# Altium schematic symbol library PowerPCB.SchLib: 56 symbols (part 1 of 2)
Pins are listed as number, name and electrical type; pins without a type are passive.

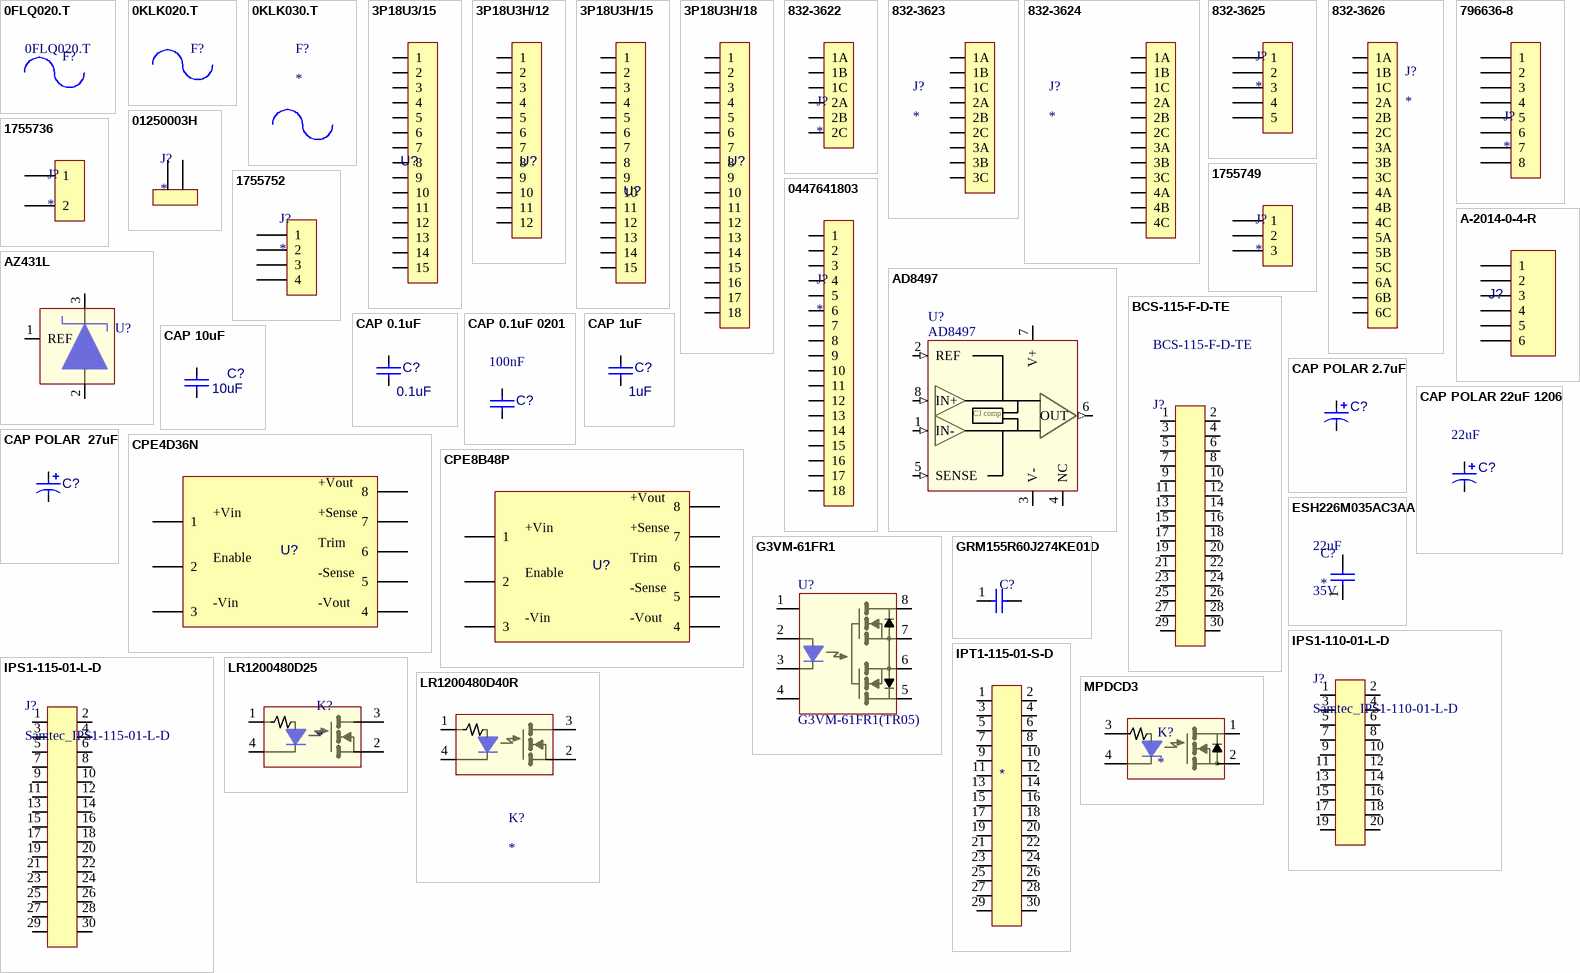
[diagram p0: symbols 0FLQ020.T to MPDCD3]

## 0FLQ020.T
designator F?  Manufacturer Part Number 1: 0FLQ020.T  (hidden comment: *)  (mechanical)
FUSE CARTRIDGE 20A 500VAC/300VDC; Manufacturer 1: Littelfuse; Voltage Rating (DC): 300V; Working Voltage: 500V; Resistance: 4.063mR; Type: Electrical; Approvals: UL,CSA; ComponentLink1URL: https://datasheet.ciiva.com/317/littelfuse-fuse-klk-317844.pdf?src-supplier=Digi-Key; ComponentLink1Description: https://datasheet.ciiva.com/317/littelfuse-fuse-klk-317844.pdf?src-supplier=Digi-Key; ComponentLink2URL: https://datasheet.ciiva.com/14102/epklk-dat-e-14102718.pdf?src-supplier=Distrelec; ComponentLink2Description: https://datasheet.ciiva.com/14102/epklk-dat-e-14102718.pdf?src-supplier=Distrelec; ComponentLink3URL: https://datasheet.ciiva.com/1548/1842486-1548255.pdf?src-supplier=Element14; ComponentLink3Description: https://datasheet.ciiva.com/1548/1842486-1548255.pdf?src-supplier=Element14; Mount: Holder,Surface Mount; Number of Pins: 2; Min Operating Temperature: -55°C; Max Operating Temperature: 125°C; Termination: Clip; Fuse Current: 20A; Voltage Rating (AC): 500V; Packaging: Bulk; Current Rating: 20A; Package Quantity: 10; Diameter: 10.31mm; Length: 38.1mm; Radiation Hardening: No; Lead Free: Lead Free; REACH SVHC: No SVHC; ComponentLink4URL: https://datasheet.ciiva.com/4483/flq-39278-4483504.pdf?src-supplier=Mouser; ComponentLink4Description: https://datasheet.ciiva.com/4483/flq-39278-4483504.pdf?src-supplier=Mouser; ComponentLink5URL: https://datasheet.ciiva.com/25619/0900766b8117e426-25619934.pdf?src-supplier=RSComponents; ComponentLink5Description: https://datasheet.ciiva.com/25619/0900766b8117e426-25619934.pdf?src-supplier=RSComponents; ComponentLink6URL: https://datasheet.ciiva.com/317/flq-317475.pdf?src-supplier=Digi-Key; ComponentLink6Description: https://datasheet.ciiva.com/317/flq-317475.pdf?src-supplier=Digi-Key; ComponentLink7URL: https://datasheet.ciiva.com/14180/flq-eng-datasheet-14180422.pdf?src-supplier=Distrelec; ComponentLink7Description: https://datasheet.ciiva.com/14180/flq-eng-datasheet-14180422.pdf?src-supplier=Distrelec; ComponentLink8URL: https://datasheet.ciiva.com/16300/flq-16300747.pdf?src-supplier=Future+Electronics; ComponentLink8Description: https://datasheet.ciiva.com/16300/flq-16300747.pdf?src-supplier=Future+Electronics; ComponentLink9URL: https://datasheet.ciiva.com/1548/flq-1548495.pdf?src-supplier=Element14; ComponentLink9Description: https://datasheet.ciiva.com/1548/flq-1548495.pdf?src-supplier=Element14; Supplier 1: Digi-Key; Supplier Part Number 1: F1055-ND; RoHS: Yes; Category: Fuses; Stock 1: 13; Pricing 1: 1=21.68000, 5=20.01600, 10=18.34800, 50=15.84600, 100=13.34400, 250=12.51000, 500=11.25900, 1000=10.84200, 5000=10.42500 (USD)

## 0KLK020.T
designator F?  (value not drawn)
FUSE CARTRIDGE 20A 600VAC/500VDC; Manufacturer: Littelfuse; Manufacturer Part Number: 0KLK020.T; Body Material: Ceramic; Voltage Rating: 600V; Voltage Rating (DC): 500V; Type: Electrical; Resistance: 4.21mR; Approvals: UL,CSA,CE,QPL; Supplier 1: Mouser; RoHS: Yes; Category: Fuses; Stock 1: 180; Pricing 1: 1=14.23000, 5=13.95000, 10=12.79000, 20=12.79000, 50=12.40000, 100=10.46000 (USD); Mount: Holder,Clip; Min Operating Temperature: -55°C; Max Operating Temperature: 125°C; Package Quantity: 10; Packaging: Bulk; Termination: Clip; Current Rating: 20A; Voltage Rating (AC): 600V; Fuse Current: 20A; Working Voltage: 600V; Diameter: 0.406inch; Length: 38.1mm; Lead Free: Lead Free; REACH SVHC: Unknown; ComponentLink1URL: https://datasheet.ciiva.com/317/littelfuse-fuse-klk-317844.pdf?src-supplier=Digi-Key; ComponentLink1Description: https://datasheet.ciiva.com/317/littelfuse-fuse-klk-317844.pdf?src-supplier=Digi-Key; ComponentLink2URL: https://datasheet.ciiva.com/14102/epklk-dat-e-14102718.pdf?src-supplier=Distrelec; ComponentLink2Description: https://datasheet.ciiva.com/14102/epklk-dat-e-14102718.pdf?src-supplier=Distrelec; ComponentLink3URL: https://datasheet.ciiva.com/1548/1842486-1548255.pdf?src-supplier=Element14; ComponentLink3Description: https://datasheet.ciiva.com/1548/1842486-1548255.pdf?src-supplier=Element14

## 0KLK030.T
designator F?  (mechanical)
FUSE CARTRIDGE 30A 600VAC/500VDC; Manufacturer: Littelfuse; Manufacturer Part Number: 0KLK030.T; Voltage Rating (DC): 500V; Voltage Rating (AC): 600V; Type: Electrical; Resistance: 2.816mR; Approvals: UL,CSA,CE,QPL; Supplier 1: Arrow; RoHS: Yes; Category: Fuses; Stock 1: 400; Pricing 1: 1=7.53700, 1=8.44690, 5=8.18000, 10=7.88100, 20=7.69900, 50=7.51500, 100=7.03100, 200=6.76700, 500=6.51300, 1000=6.25800 (USD); Mount: Holder,Clip; Number of Pins: 2; Min Operating Temperature: -55°C; Max Operating Temperature: 125°C; Current Rating: 30A; Package Quantity: 10; Voltage Rating: 600V; Packaging: Bulk; Termination: Clip; Fuse Current: 30A; Working Voltage: 600V; Diameter: 10.31mm; Length: 38.1mm; Radiation Hardening: No; Lead Free: Lead Free; REACH SVHC: Unknown; ComponentLink1URL: https://datasheet.ciiva.com/14102/epklk-dat-e-14102720.pdf?src-supplier=Distrelec; ComponentLink1Description: https://datasheet.ciiva.com/14102/epklk-dat-e-14102720.pdf?src-supplier=Distrelec; ComponentLink2URL: https://datasheet.ciiva.com/1548/1842486-1548256.pdf?src-supplier=Element14; ComponentLink2Description: https://datasheet.ciiva.com/1548/1842486-1548256.pdf?src-supplier=Element14; ComponentLink3URL: https://datasheet.ciiva.com/317/littelfuse-fuse-klk-317843.pdf?src-supplier=Digi-Key; ComponentLink3Description: https://datasheet.ciiva.com/317/littelfuse-fuse-klk-317843.pdf?src-supplier=Digi-Key; ComponentLink4URL: https://datasheet.ciiva.com/26845/getdatasheetpartid-729153-26845638.pdf?src-supplier=Verical; ComponentLink4Description: https://datasheet.ciiva.com/26845/getdatasheetpartid-729153-26845638.pdf?src-supplier=Verical; Supplier Part Number 1: 0KLK030.T

## 3P18U3/15
designator U?  (value not drawn)
Busbar 3Phase 80A 480VAC 18SQmm 15Pins 5x3Pole UL508 for (V-EA MA Series)MMCs; Manufacturer: Altech; Manufacturer Part Number: 3P18U3/15; Voltage Rating (AC): 480V; Supplier 1: Digi-Key; RoHS: Yes; Category: Uncategorized; Stock 1: 13; Pricing 1: 1=29.93000, 10=27.02100, 25=25.88800, 50=24.27000, 100=23.46100, 250=22.16660, 500=21.51940, 1000=21.03400 (USD); Number of Pins: 15; Insulation Material: Polyamide; Current Rating: 80A; Length: 10.29inch; ComponentLink1URL: https://www.alliedelec.com/m/d/16ce2094eb8c55c4d566d4e8baeebf64.pdf?src-supplier=Allied+Electronics; ComponentLink1Description: https://www.alliedelec.com/m/d/16ce2094eb8c55c4d566d4e8baeebf64.pdf?src-supplier=Allied+Electronics; Supplier Part Number 1: 1920-1430-ND
footprint 3P18U3-15 (BUSBAR3 PHASE+1/2P18SQMM PIN TYP)
pins: 1, 2, 3, 4, 5, 6, 7, 8, 9, 10, 11, 12, 13, 14, 15

## 3P18U3H/12
designator U?  (value not drawn)
Busbar, 3 Phase+1/2pole, 18sqmm, PIN Type, 12lugs, UL/cUL listed; Manufacturer: Altech; Manufacturer Part Number: 3P18U3H/12; Supplier 1: Allied Electronics; RoHS: No; Pricing 1: 1=30.63000, 10=29.71000, 50=29.10000, 100=27.57000, 200=26.04000 (USD); Supplier Part Number 1: 71146457
pins: 1, 2, 3, 4, 5, 6, 7, 8, 9, 10, 11, 12

## 3P18U3H/15
designator U?  (value not drawn)
Busbar, 3 Phase+1/2pole, 18sqmm, PIN Type, 15Lugs, UL/cUL listed; Manufacturer: Altech; Manufacturer Part Number: 3P18U3H/15; Supplier 1: Allied Electronics; RoHS: No; Pricing 1: 1=34.57000, 10=33.53000, 50=32.84000, 100=31.11000, 200=29.38000 (USD); Supplier Part Number 1: 71146458
footprint 3P18U3H-15 (BUSBAR3 PHASE+1/2P18SQMM PIN TYP)
pins: 1, 2, 3, 4, 5, 6, 7, 8, 9, 10, 11, 12, 13, 14, 15

## 3P18U3H/18
designator U?  (value not drawn)
Busbar, 3 Phase+1/2pole, 18sqmm, PIN Type, 18Lugs, UL/cUL listed; Manufacturer: Altech; Manufacturer Part Number: 3P18U3H/18; Supplier 1: Allied Electronics; RoHS: No; Pricing 1: 1=38.51000, 10=37.35000, 50=36.58000, 100=34.66000, 200=32.73000 (USD)
footprint 3P18U3H-15 (BUSBAR3 PHASE+1/2P18SQMM PIN TYP)
pins: 1, 2, 3, 4, 5, 6, 7, 8, 9, 10, 11, 12, 13, 14, 15, 16, 17, 18

## 832-3622
designator J?
832 Series MCS MAXI 16 2 Pole Cage Clamp with Lever Through Hole Male Connector; Manufacturer: WAGO; Manufacturer Part Number: 832-3622; Supplier 1: Newark; Stock 1: 100; Pricing 1: 1=2.24000, 25=2.24000, 100=2.24000, 250=2.24000, 500=2.24000 (USD); ComponentLink1URL: http://datasheet.octopart.com/832-3622-WAGO-datasheet-121832905.pdf?src-supplier=Future+Electronics; ComponentLink1Description: http://datasheet.octopart.com/832-3622-WAGO-datasheet-121832905.pdf?src-supplier=Future+Electronics; ComponentLink2URL: http://datasheet.octopart.com/832-3622-WAGO-datasheet-140899062.pdf?src-supplier=Future+Electronics; ComponentLink2Description: http://datasheet.octopart.com/832-3622-WAGO-datasheet-140899062.pdf?src-supplier=Future+Electronics; Supplier Part Number 1: 85AC3341
footprint W-832-3622_6
pins: 1A, 1B, 1C, 2A, 2B, 2C

## 832-3623
designator J?
832 Series MCS MAXI 16 3 Pole Cage Clamp with Lever Through Hole Male Connector; Manufacturer: WAGO; Manufacturer Part Number: 832-3623; Supplier 1: Newark; Stock 1: 100; Pricing 1: 1=3.36000, 25=3.36000, 100=3.36000, 250=3.36000, 500=3.36000 (USD); ComponentLink1URL: http://datasheet.octopart.com/832-3623-WAGO-datasheet-121832906.pdf?src-supplier=Future+Electronics; ComponentLink1Description: http://datasheet.octopart.com/832-3623-WAGO-datasheet-121832906.pdf?src-supplier=Future+Electronics; ComponentLink2URL: http://datasheet.octopart.com/832-3623-WAGO-datasheet-140899063.pdf?src-supplier=Future+Electronics; ComponentLink2Description: http://datasheet.octopart.com/832-3623-WAGO-datasheet-140899063.pdf?src-supplier=Future+Electronics; Supplier Part Number 1: 85AC3342
footprint W-832-3623_9
pins: 1A, 1B, 1C, 2A, 2B, 2C, 3A, 3B, 3C

## 832-3624
designator J?
Terminal Block, Header, 10.16 mm, 4 Positions, 76 A, 1 kV, Through Hole Right Angle; Manufacturer: WAGO; Manufacturer Part Number: 832-3624; Supplier 1: Newark; RoHS: No; Stock 1: 40; Pricing 1: 1=4.46000, 25=4.46000, 100=4.46000, 250=4.46000, 500=4.46000 (USD); Supplier Part Number 1: 85AC3343
footprint W-832-3624_12
pins: 1A, 1B, 1C, 2A, 2B, 2C, 3A, 3B, 3C, 4A, 4B, 4C

## 832-3625
designator J?
Terminal Block, Header, 10.16 mm, 5 Positions, 76 A, 1 kV, Through Hole Right Angle; Manufacturer: WAGO; Manufacturer Part Number: 832-3625; Supplier 1: Newark; RoHS: No; Stock 1: 14; Pricing 1: 1=7.92000, 25=7.92000, 100=7.92000, 250=7.31000, 500=7.31000 (USD); Supplier Part Number 1: 85AC3344
pins: 1, 2, 3, 4, 5

## 832-3626
designator J?
Wago Serie 832 832-3626 - 832-3626; Supplier 1: Newark; Manufacturer: WAGO; Manufacturer Part Number: 832-3626; Stock 1: 20; Pricing 1: 1=6.70000, 25=6.70000, 100=6.70000, 250=6.70000, 500=6.70000 (USD); Supplier Part Number 1: 85AC3345
footprint W-832-3626_18
pins: 1A, 1B, 1C, 2A, 2B, 2C, 3A, 3B, 3C, 4A, 4B, 4C, 5A, 5B, 5C, 6A, 6B, 6C

## 796636-8
designator J?
Conn Shrouded Header HDR 8 POS 5.08mm Solder ST Thru-Hole; Manufacturer: TE Connectivity; Manufacturer Part Number: 796636-8; Number of Positions Per Level: 8; Number of Levels: 1; Current: 15A; Voltage: 300V; Interlock: No (Without); Shrouded: Yes (With); Tail Length: 3.5mm; Approvals: UL; Supplier 1: Digi-Key; RoHS: Yes; Category: Headers and Wire Housings; Stock 1: 429; Pricing 1: 1=3.04000, 10=2.32000, 25=2.17280, 50=1.93120, 100=1.88930, 250=1.74236, 500=1.57442, 1000=1.39598, 5000=1.31201 (USD); Mount: Through Hole; Housing Material: Polyamide; Housing Color: Green; Color: Green; Contact Plating: Tin; Contact Material: Bronze; Min Operating Temperature: -40°C; Max Operating Temperature: 105°C; Termination: Solder; Number of Positions: 8; Number of Contacts: 8; Orientation: Vertical; Connector Type: Header; Max Current Rating: 15A; Screw Flange: No (Without); Screwless Terminal Block: No (Without); Side Stackable: No (Without); Package Quantity: 100; Packaging: Box; Number of Rows: 1; Current Rating: 15A; Voltage Rating (AC): 300V; Max Voltage Rating (AC): 300V; Voltage Rating: 300V; Number of Poles: 8; Closed End: Yes (With); Length: 42.46mm; Pitch: 5.08mm; Depth: 8.35mm; Radiation Hardening: No; Flammability Rating: UL94 V-0; ComponentLink1URL: https://datasheet.ciiva.com/16684/eng-cs-1308389-eurostyle-terminal-blocks-0607-16684060.pdf?src-supplier=Avnet+Europe; ComponentLink1Description: https://datasheet.ciiva.com/16684/eng-cs-1308389-eurostyle-terminal-blocks-0607-16684060.pdf?src-supplier=Avnet+Europe; ComponentLink2URL: https://datasheet.ciiva.com/794/eng-cd-796636-c6-794740.pdf?src-supplier=Digi-Key; ComponentLink2Description: https://datasheet.ciiva.com/794/eng-cd-796636-c6-794740.pdf?src-supplier=Digi-Key; ComponentLink3URL: https://datasheet.ciiva.com/9466/eng-cs-1308389-eurostyle-terminal-blocks-0607-9466933.pdf?src-supplier=Avnet; ComponentLink3Description: https://datasheet.ciiva.com/9466/eng-cs-1308389-eurostyle-terminal-blocks-0607-9466933.pdf?src-supplier=Avnet; ComponentLink4URL: https://datasheet.ciiva.com/16405/eng-ds-1-1773458-1-euro-style-qrg-0810-16405653.pdf?src-supplier=Future+Electronics; ComponentLink4Description: https://datasheet.ciiva.com/16405/eng-ds-1-1773458-1-euro-style-qrg-0810-16405653.pdf?src-supplier=Future+Electronics; ComponentLink5URL: https://datasheet.ciiva.com/30231/eng-cs-1308389-eurostyle-terminal-blocks-0607-30231015.pdf?src-supplier=Onlinecomponents.com; ComponentLink5Description: https://datasheet.ciiva.com/30231/eng-cs-1308389-eurostyle-terminal-blocks-0607-30231015.pdf?src-supplier=Onlinecomponents.com; Supplier Part Number 1: A98234-ND
footprint TE-796636-8 (TERM BLOCK HDR 8POS VERT 5.08MM)
pins: 1, 2, 3, 4, 5, 6, 7, 8

## 01250003H
designator J?
Fuse Clip, 250 V, 250 V, 20 A, Cartridge Fuse Clip, Pin, 1 RoHS Compliant: Yes; Manufacturer: Littelfuse; Manufacturer Part Number: 01250003H; Body Material: Copper; Current Rating: 30A; Voltage Rating (DC): 250V; Fuse Current: 20A; Number of Circuits: 1; Supplier 1: Future Electronics; RoHS: Yes; Category: Fuses; Stock 1: 2695; Pricing 1: 1=2.62000, 30=2.35000, 100=2.26000, 300=2.18000, 1000=2.10000 (USD); Mount: Horizontal,PCB; Contact Plating: Tin; Material: Copper,Tin; Voltage Rating (AC): 250V; Packaging: Bulk; Package Quantity: 100; Voltage Rating: 250V; Termination: PC Pin; Voltage: 250V; Length: 12.4mm; Height: 18.7mm; Width: 12.4mm; Depth: 11.1mm; Lead Free: Lead Free; REACH SVHC: Unknown; ComponentLink1URL: https://datasheet.ciiva.com/15187/getdatasheetpartid-123617-15187910.pdf?src-supplier=Verical; ComponentLink1Description: https://datasheet.ciiva.com/15187/getdatasheetpartid-123617-15187910.pdf?src-supplier=Verical; ComponentLink2URL: https://datasheet.ciiva.com/295/0105-129-clips-295567.pdf?src-supplier=Digi-Key; ComponentLink2Description: https://datasheet.ciiva.com/295/0105-129-clips-295567.pdf?src-supplier=Digi-Key; ComponentLink3URL: https://datasheet.ciiva.com/1269/1480080-1269308.pdf?src-supplier=Element14; ComponentLink3Description: https://datasheet.ciiva.com/1269/1480080-1269308.pdf?src-supplier=Element14; Supplier Part Number 1: 01250003H-BOX
footprint FUSE_CLIP_01250003H
pins: 1, 2

## 1755736
designator J?
Combicon Series Side Panels Plug In Vertical To Pcb 2pos 12a 250vac Green Plastic Housing 5.08mm Pitch 5.08mm Length; Manufacturer: Phoenix Contact; Manufacturer Part Number: 1755736; Voltage Rating: 250V; Number of Poles: 2; Number of Levels: 1; Voltage: 300V; Gender: Male; Approvals: UL,CSA,VDE,cULus,CB; Supplier 1: Digi-Key; RoHS: Yes; Category: Terminal Blocks; Stock 1: 14871; Pricing 1: 1=0.64000, 10=0.61600, 50=0.58900, 100=0.57300, 250=0.53552, 500=0.49266, 1000=0.45518, 2500=0.43375, 5000=0.40698 (USD); Mount: Through Hole; Weight: 5.467464oz; Color: Green; Contact Plating: Tin; Housing Color: Green; Housing Material: Polybutylene; Contact Material: Tin; Package Quantity: 50; Packaging: Bulk; Termination: Solder; Orientation: Straight; Voltage Rating (DC): 250V; Number of Rows: 1; Max Current Rating: 12A; Current Rating: 12A; Number of Positions Per Level: 2; Current: 12A; Number of Positions: 2; Number of Contacts: 2; Connector Type: Plug; Length: 12.16mm; Height: 12.16mm; Width: 15.9mm; Depth: 8.6mm; Pitch: 5.08mm; REACH SVHC: No SVHC; Lead Free: Lead Free; Flammability Rating: UL94 V-0; ComponentLink1URL: https://datasheet.ciiva.com/795/1755736-795408.pdf?src-supplier=Digi-Key; ComponentLink1Description: https://datasheet.ciiva.com/795/1755736-795408.pdf?src-supplier=Digi-Key; ComponentLink2URL: https://datasheet.ciiva.com/3934/1755736-3934562.pdf?src-supplier=Arrow; ComponentLink2Description: https://datasheet.ciiva.com/3934/1755736-3934562.pdf?src-supplier=Arrow; ComponentLink3URL: https://datasheet.ciiva.com/15197/getdatasheetpartid-176344-15197314.pdf?src-supplier=Verical; ComponentLink3Description: https://datasheet.ciiva.com/15197/getdatasheetpartid-176344-15197314.pdf?src-supplier=Verical; ComponentLink4URL: https://datasheet.ciiva.com/7630/1694664-7630835.pdf?src-supplier=Element14; ComponentLink4Description: https://datasheet.ciiva.com/7630/1694664-7630835.pdf?src-supplier=Element14; ComponentLink5URL: https://datasheet.ciiva.com/16096/1755736-16096360.pdf?src-supplier=Onlinecomponents.com; ComponentLink5Description: https://datasheet.ciiva.com/16096/1755736-16096360.pdf?src-supplier=Onlinecomponents.com; ComponentLink6URL: https://datasheet.ciiva.com/29210/569804-da-01-en-grundgehaeuse-1755736-250-st-29210980.pdf?src-supplier=Conrad; ComponentLink6Description: https://datasheet.ciiva.com/29210/569804-da-01-en-grundgehaeuse-1755736-250-st-29210980.pdf?src-supplier=Conrad; ComponentLink7URL: https://datasheet.ciiva.com/18409/70054651-18409467.pdf?src-supplier=Allied+Electronics; ComponentLink7Description: https://datasheet.ciiva.com/18409/70054651-18409467.pdf?src-supplier=Allied+Electronics; ComponentLink8URL: https://datasheet.ciiva.com/33105/1755736-33105754.pdf?src-supplier=Today+Components; ComponentLink8Description: https://datasheet.ciiva.com/33105/1755736-33105754.pdf?src-supplier=Today+Components; Supplier Part Number 1: 277-1150-ND; Supplier 2: Digi-Key; Supplier Part Number 2: 0447641803-ND
footprint PHX-1755736 (TERM BLOCK HDR 2POS VERT 5.08MM)
pins: 1, 2

## 1755749
designator J?
TERM BLOCK HDR 3POS VERT 5.08MM; Manufacturer: Phoenix Contact; Manufacturer Part Number: 1755749; Max Current Rating: 12A; Voltage Rating: 250V; Number of Poles: 3; Number of Levels: 1; Voltage: 300V; Connector Type: Plug; Approvals: UL,CSA,VDE,cULus,CB; Supplier 1: Digi-Key; RoHS: Yes; Category: Terminal Blocks; Stock 1: 4859; Pricing 1: 1=1.03000, 10=0.99000, 50=0.94720, 100=0.92130, 250=0.86100, 500=0.79212, 1000=0.73185, 2500=0.69741, 5000=0.65436 (USD); Mount: Through Hole; Weight: 5.467464oz; Color: Grey,Green; Housing Material: Polybutylene; Contact Plating: Tin; Contact Material: Tin; Housing Color: Green; Package Quantity: 50; Packaging: Bulk; Number of Rows: 1; Current Rating: 12A; Number of Positions: 3; Termination: Solder; Number of Positions Per Level: 3; Current: 12A; Number of Contacts: 3; Voltage Rating (DC): 250V; Orientation: Straight; Length: 17.24mm; Height: 15.9mm; Pitch: 5.08mm; Depth: 8.6mm; Width: 17.24mm; Flammability Rating: UL94 V-0; REACH SVHC: Unknown; Lead Free: Lead Free; ComponentLink1URL: https://datasheet.ciiva.com/15197/getdatasheetpartid-176345-15197315.pdf?src-supplier=Verical; ComponentLink1Description: https://datasheet.ciiva.com/15197/getdatasheetpartid-176345-15197315.pdf?src-supplier=Verical; ComponentLink2URL: https://datasheet.ciiva.com/795/1755749-795419.pdf?src-supplier=Digi-Key; ComponentLink2Description: https://datasheet.ciiva.com/795/1755749-795419.pdf?src-supplier=Digi-Key; ComponentLink3URL: https://datasheet.ciiva.com/16096/1755749-16096362.pdf?src-supplier=Onlinecomponents.com; ComponentLink3Description: https://datasheet.ciiva.com/16096/1755749-16096362.pdf?src-supplier=Onlinecomponents.com; ComponentLink4URL: https://datasheet.ciiva.com/29210/569612-da-01-en-grundgehaeuse-1755749-250-st-29210780.pdf?src-supplier=Conrad; ComponentLink4Description: https://datasheet.ciiva.com/29210/569612-da-01-en-grundgehaeuse-1755749-250-st-29210780.pdf?src-supplier=Conrad; ComponentLink5URL: https://datasheet.ciiva.com/33105/1755749-33105914.pdf?src-supplier=Today+Components; ComponentLink5Description: https://datasheet.ciiva.com/33105/1755749-33105914.pdf?src-supplier=Today+Components; Supplier Part Number 1: 277-1151-ND
footprint PHX-1755749 (TERM BLOCK HDR 3POS VERT 5.08MM)
pins: 1, 2, 3

## 1755752
designator J?
Terminal Header; 12 A; 250 V; 5.08 mm; 4; Solder Mount; 1.4 mm; 4 kV; 250 V; Manufacturer: Phoenix Contact; Manufacturer Part Number: 1755752; Current Rating: 12A; Number of Poles: 4; Voltage Rating: 250V; Number of Levels: 1; Voltage: 300V; Gender: Male; Connector Type: Plug; Pitch: 5.08mm; Approvals: UL,CSA,VDE,cULus,CB; Supplier 1: Digi-Key; RoHS: Yes; Category: Terminal Blocks; Stock 1: 9524; Pricing 1: 1=1.40000, 10=1.34000, 50=1.28200, 100=1.24710, 250=1.16552, 500=1.07226, 1000=0.99067, 2500=0.94405, 5000=0.88578 (USD); Mount: Through Hole; Weight: 5.467464oz; Color: Green,Grey; Contact Plating: Tin; Housing Color: Green; Housing Material: Polybutylene; Contact Material: Tin; Package Quantity: 50; Packaging: Bulk; Number of Rows: 1; Max Current Rating: 12A; Number of Positions Per Level: 4; Termination: Solder; Current: 12A; Number of Positions: 4; Number of Contacts: 4; Orientation: Straight; Voltage Rating (DC): 250V; Length: 22.32mm; Height: 15.9mm; Depth: 8.6mm; Width: 22.32mm; REACH SVHC: No SVHC; Lead Free: Lead Free; Flammability Rating: UL94 V-0; ComponentLink1URL: https://datasheet.ciiva.com/15197/getdatasheetpartid-198278-15197316.pdf?src-supplier=Verical; ComponentLink1Description: https://datasheet.ciiva.com/15197/getdatasheetpartid-198278-15197316.pdf?src-supplier=Verical; ComponentLink2URL: https://datasheet.ciiva.com/795/1755752-795435.pdf?src-supplier=Digi-Key; ComponentLink2Description: https://datasheet.ciiva.com/795/1755752-795435.pdf?src-supplier=Digi-Key; ComponentLink3URL: https://datasheet.ciiva.com/16096/1755752-16096364.pdf?src-supplier=Onlinecomponents.com; ComponentLink3Description: https://datasheet.ciiva.com/16096/1755752-16096364.pdf?src-supplier=Onlinecomponents.com; ComponentLink4URL: https://datasheet.ciiva.com/29210/569389-da-01-en-grundgehaeuse-1755752-250-st-29210608.pdf?src-supplier=Conrad; ComponentLink4Description: https://datasheet.ciiva.com/29210/569389-da-01-en-grundgehaeuse-1755752-250-st-29210608.pdf?src-supplier=Conrad; Supplier Part Number 1: 277-1152-ND
footprint PHX-1755752 (TERM BLOCK HDR 4POS VERT 5.08MM)
pins: 1, 2, 3, 4

## 0447641803
designator J?
Conn Power RCP 18 POS 3mm Solder RA Thru-Hole 18 Terminal 1 Port Micro-Fit 3.0 BMI™ Tray; Manufacturer: Molex; Manufacturer Part Number: 0447641803; Number of Positions: 18; Connector Type: Receptacle,Socket; Number of Ports: 1; Row Spacing: 0.118inch; Supplier 1: Digi-Key; RoHS: Yes; Category: Headers and Wire Housings; Pricing 1: 1320=5.46849 (USD); Mount: Through Hole; Housing Material: Polymer; Housing Color: Black; Contact Material: Bronze; Contact Plating: Gold; Color: Black; Number of Terminals: 18; Min Operating Temperature: -40°C; Max Operating Temperature: 105°C; Orientation: Right Angle; Packaging: Tray; Number of Rows: 2; Termination: Solder; Number of Contacts: 18; Length: 27.7mm; Pitch: 3mm; Depth: 21mm; ComponentLink1URL: https://datasheet.ciiva.com/6787/447640603-sd-6787638.pdf?src-supplier=Digi-Key; ComponentLink1Description: https://datasheet.ciiva.com/6787/447640603-sd-6787638.pdf?src-supplier=Digi-Key; ComponentLink2URL: https://datasheet.ciiva.com/10077/0447641803-pcb-receptacles-10077390.pdf?src-supplier=Avnet; ComponentLink2Description: https://datasheet.ciiva.com/10077/0447641803-pcb-receptacles-10077390.pdf?src-supplier=Avnet; Supplier Part Number 1: 0447641803-ND
footprint MLX44764-1803 (CONN RCPT 18P 0.118 GOLD PCB R/A)
pins: 1, 2, 3, 4, 5, 6, 7, 8, 9, 10, 11, 12, 13, 14, 15, 16, 17, 18

## A-2014-0-4-R
designator J?, comment 6P4C Mod Jack  (value not drawn)
CONN MOD JACK 6P4C VERT UNSHLD; Manufacturer: Assmann; Manufacturer Part Number: A-2014-0-4-R; Direction: User Selectable; Number of Ports: 1; Shielding: Unshielded; Supplier 1: Digi-Key; RoHS: Yes; Category: Connectors; Stock 1: 5368; Pricing 1: 1=0.46000, 10=0.43200, 25=0.38880, 50=0.34560, 100=0.33120, 250=0.30240, 500=0.28800, 1000=0.23760, 2500=0.21600 (USD); Mount: Through Hole; Contact Plating: Gold; Contact Material: Bronze; Housing Material: PBT; Min Operating Temperature: -40°C; Max Operating Temperature: 85°C; Orientation: Vertical; Connector Type: Jack; Termination: Solder; Package Quantity: 100; Number of Rows: 1; Packaging: Tray; Lead Free: Lead Free; ComponentLink1URL: https://datasheet.ciiva.com/30201/a-2014-0-4-r-30201312.pdf?src-supplier=Onlinecomponents.com; ComponentLink1Description: https://datasheet.ciiva.com/30201/a-2014-0-4-r-30201312.pdf?src-supplier=Onlinecomponents.com; ComponentLink2URL: https://datasheet.ciiva.com/685/a-2014-0-4-r-685812.pdf?src-supplier=Digi-Key; ComponentLink2Description: https://datasheet.ciiva.com/685/a-2014-0-4-r-685812.pdf?src-supplier=Digi-Key; ComponentLink3URL: https://datasheet.ciiva.com/24467/a-2014-0-4-r-24467066.pdf?src-supplier=Onlinecomponents.com; ComponentLink3Description: https://datasheet.ciiva.com/24467/a-2014-0-4-r-24467066.pdf?src-supplier=Onlinecomponents.com; Supplier Part Number 1: AE10390-ND
footprint A-2014-0-4-R (CONN MOD JACK 6P4C VERT UNSHLD)
pins: 1, 2, 3, 4, 5, 6

## AD8497
designator U?
IC THERMOCOUPLE A W/COMP 8MSOP; Manufacturer: Analog Devices; Manufacturer Part Number: AD8497CRMZ; Max Supply Voltage: 18V; Min Supply Voltage: 2.7V; Nominal Supply Current: 180uA; Interface: Analog; Gain Bandwidth Product: 25kHz; Max Supply Current: 250uA; Supplier 1: Mouser; Supplier Part Number 1: 584-AD8497CRMZ; RoHS: Yes; Category: Integrated Circuits (ICs); Stock 1: 832; Pricing 1: 1=10.51000, 10=9.50000, 25=9.05000, 50=8.76000, 100=7.51000, 250=6.85000 (USD); Case/Package: MSOP; Number of Pins: 8; Contact Plating: Tin,Matte; Min Operating Temperature: -40°C; Max Operating Temperature: 125°C; Package Quantity: 50; Packaging: Rail/Tube; Operating Supply Current: 180uA; Output Type: Analog; Dual Supply Voltage: 18V; Length: 3.2mm; Height: 0.95mm; Width: 3.2mm; Lead Free: Contains Lead; REACH SVHC: No SVHC; ComponentLink1URL: https://datasheet.ciiva.com/15098/getdatasheetpartid-292295-15098879.pdf?src-supplier=Verical; ComponentLink1Description: https://datasheet.ciiva.com/15098/getdatasheetpartid-292295-15098879.pdf?src-supplier=Verical; ComponentLink2URL: https://datasheet.ciiva.com/26838/ad8497crmz-26838665.pdf?src-supplier=IIIC; ComponentLink2Description: https://datasheet.ciiva.com/26838/ad8497crmz-26838665.pdf?src-supplier=IIIC; ComponentLink3URL: https://datasheet.ciiva.com/1781/ad8494-8495-8496-8497-1781910.pdf?src-supplier=Digi-Key; ComponentLink3Description: https://datasheet.ciiva.com/1781/ad8494-8495-8496-8497-1781910.pdf?src-supplier=Digi-Key; ComponentLink4URL: https://datasheet.ciiva.com/22726/1503739-22726216.pdf?src-supplier=Element14; ComponentLink4Description: https://datasheet.ciiva.com/22726/1503739-22726216.pdf?src-supplier=Element14; ComponentLink5URL: https://datasheet.ciiva.com/3275/ad8494-8495-8496-8497-3275289.pdf?src-supplier=Avnet; ComponentLink5Description: https://datasheet.ciiva.com/3275/ad8494-8495-8496-8497-3275289.pdf?src-supplier=Avnet; ComponentLink6URL: https://datasheet.ciiva.com/16636/ad8494-8495-8496-8497-16636331.pdf?src-supplier=Avnet+Europe; ComponentLink6Description: https://datasheet.ciiva.com/16636/ad8494-8495-8496-8497-16636331.pdf?src-supplier=Avnet+Europe; ComponentLink7URL: https://datasheet.ciiva.com/48706/001248567-da-01-en-ic-thermocouple-a-ad8497crmz-msop-8-adi-48706055.pdf?src-supplier=Conrad; ComponentLink7Description: https://datasheet.ciiva.com/48706/001248567-da-01-en-ic-thermocouple-a-ad8497crmz-msop-8-adi-48706055.pdf?src-supplier=Conrad
footprint MSOP_8
pins: 1 IN- (in), 2 REF (in), 3 V- (power), 4 NC, 5 SENSE (in), 6 OUT (out), 7 V+ (power), 8 IN+ (in)
text: CJ comp

## AZ431L
designator U?  (value not drawn)
V-Ref Adjustable/Precision 1.24V to 18V 100mA 3-Pin TO-92 Ammo Pack; Manufacturer: Diodes; Manufacturer Part Number: AZ431LAZTR-E1; Reference Type: Shunt; Tolerance: 0.5%; Temperature Coefficient: 20ppm/°C; Cathode Current: 80uA; Supplier 1: Digi-Key; Supplier Part Number 1: AZ431LAZTR-E1DICT-ND; RoHS: Yes; Category: Voltage References; Stock 1: 288; Pricing 1: 1=0.45000, 10=0.33700, 25=0.30400, 100=0.16580, 250=0.16024 (USD); Mount: Through Hole; Case/Package: TO-226-3; Number of Pins: 3; Min Operating Temperature: -40°C; Max Operating Temperature: 125°C; Packaging: Tape and Reel; Output Current: 100mA; Output Type: Adjustable; Min Output Voltage: 1.24V; Package Quantity: 2000; Max Output Voltage: 18V; Output Voltage: 18V; Max Output Current: 100mA; Max Input Voltage: 18V; Radiation Hardening: No; ComponentLink1URL: https://datasheet.ciiva.com/29571/az431l-29571949.pdf?src-supplier=Digi-Key; ComponentLink1Description: https://datasheet.ciiva.com/29571/az431l-29571949.pdf?src-supplier=Digi-Key; ComponentLink2URL: https://datasheet.ciiva.com/30002/az431l-30002056.pdf?src-supplier=Avnet; ComponentLink2Description: https://datasheet.ciiva.com/30002/az431l-30002056.pdf?src-supplier=Avnet
footprint TO_92
pins: 1 REF, 2 K, 3 A

## BCS-115-F-D-TE
designator J?  Manufacturer Part Number 1: BCS-115-F-D-TE
.100" (2.54 mm) Tiger Claw™ Pass-through Socket Strip; Manufacturer 1: Samtec; Number of Contacts: 30; Gender: Female; Pitch: 2.54mm; ComponentLink1URL: https://datasheet.ciiva.com/16684/eng-cs-1308389-eurostyle-terminal-blocks-0607-16684060.pdf?src-supplier=Avnet+Europe; ComponentLink1Description: https://datasheet.ciiva.com/16684/eng-cs-1308389-eurostyle-terminal-blocks-0607-16684060.pdf?src-supplier=Avnet+Europe; ComponentLink2URL: https://datasheet.ciiva.com/794/eng-cd-796636-c6-794740.pdf?src-supplier=Digi-Key; ComponentLink2Description: https://datasheet.ciiva.com/794/eng-cd-796636-c6-794740.pdf?src-supplier=Digi-Key; ComponentLink3URL: https://datasheet.ciiva.com/9466/eng-cs-1308389-eurostyle-terminal-blocks-0607-9466933.pdf?src-supplier=Avnet; ComponentLink3Description: https://datasheet.ciiva.com/9466/eng-cs-1308389-eurostyle-terminal-blocks-0607-9466933.pdf?src-supplier=Avnet; ComponentLink4URL: https://datasheet.ciiva.com/16405/eng-ds-1-1773458-1-euro-style-qrg-0810-16405653.pdf?src-supplier=Future+Electronics; ComponentLink4Description: https://datasheet.ciiva.com/16405/eng-ds-1-1773458-1-euro-style-qrg-0810-16405653.pdf?src-supplier=Future+Electronics; ComponentLink5URL: https://datasheet.ciiva.com/30231/eng-cs-1308389-eurostyle-terminal-blocks-0607-30231015.pdf?src-supplier=Onlinecomponents.com; ComponentLink5Description: https://datasheet.ciiva.com/30231/eng-cs-1308389-eurostyle-terminal-blocks-0607-30231015.pdf?src-supplier=Onlinecomponents.com; ComponentLink6URL: https://datasheet.ciiva.com/25618/0900766b8114c2ef-25618045.pdf?src-supplier=RSComponents; ComponentLink6Description: https://datasheet.ciiva.com/25618/0900766b8114c2ef-25618045.pdf?src-supplier=RSComponents; ComponentLink7URL: https://datasheet.ciiva.com/16677/ipt1-16677673.pdf?src-supplier=Avnet+Europe; ComponentLink7Description: https://datasheet.ciiva.com/16677/ipt1-16677673.pdf?src-supplier=Avnet+Europe; Mount: Through Hole; Contact Plating: Gold; Number of Rows: 2; Termination: Solder; ComponentLink8URL: https://datasheet.ciiva.com/9853/bcs-9853189.pdf?src-supplier=Avnet; ComponentLink8Description: https://datasheet.ciiva.com/9853/bcs-9853189.pdf?src-supplier=Avnet; Supplier 1: Newark; Supplier Part Number 1: 87P2293; RoHS: Yes; Category: Connectors; Stock 1: 100; Pricing 1: 1=3.40000, 10=3.13000, 25=2.87000, 50=2.75000, 100=2.62000, 250=2.29000, 500=2.22000 (USD)
footprint BCS-115-F-D-TE
pins: 1, 2, 3, 4, 5, 6, 7, 8, 9 101, 10 101, 11 101, 12 101, 13 101, 14 101, 15 101, 16 101, 17 101, 18 101, 19 101, 20 101, 21 101, 22 101, 23 101, 24 101, 25 101, 26 101, 27 101, 28 101, 29 101, 30 101

## CAP 0.1uF
designator C?, comment 0.1uF
Cap Ceramic 0.1uF 16V X7R 5% SMD 0603 125C Paper T/R; Manufacturer: Kyocera AVX; Manufacturer Part Number: 0603YC104JAT2A; _Verified Footprint: .mfr-pn? footprint?; _Verified Symbol: .mfr-pn?; Capacitance: 100nF; Dissipation Factor: 3.5%; Insulation Resistance: 100GR; _Verified BOM: .mfr-pn?; Supplier 1: Digi-Key; Supplier Part Number 1: 478-3726-1-ND; RoHS: Yes; Category: Ceramic Capacitors; Stock 1: 294639; Pricing 1: 1=0.24000, 10=0.16200, 50=0.09740, 100=0.08230, 500=0.05632, 1000=0.04982 (USD); Mount: Surface Mount,PCB; Case/Package: 0603; Number of Pins: 2; Case Code (Metric): 1608; Case Code (Imperial): 0603; Contact Plating: Tin,Matte; Min Operating Temperature: -55°C; Max Operating Temperature: 125°C; Tolerance: 5%; Voltage Rating: 16V; Packaging: Tape and Reel; Package Quantity: 1; Dielectric: X7R; Termination: SMD/SMT; Voltage Rating (DC): 16V; Voltage: 16V; Length: 1.6mm; Height: 0.9mm; Width: 0.032inch; Depth: 0.81mm; Thickness: 0.035inch; Radiation Hardening: No; REACH SVHC: No SVHC; Lead Free: Lead Free; ComponentLink1URL: https://datasheet.ciiva.com/34303/2010229-34303808.pdf?src-supplier=Jameco; ComponentLink1Description: https://datasheet.ciiva.com/34303/2010229-34303808.pdf?src-supplier=Jameco; ComponentLink2URL: https://datasheet.ciiva.com/11786/0900766b80ed4be2-11786358.pdf?src-supplier=RSComponents; ComponentLink2Description: https://datasheet.ciiva.com/11786/0900766b80ed4be2-11786358.pdf?src-supplier=RSComponents; ComponentLink3URL: https://datasheet.ciiva.com/1458/1679506-1458124.pdf?src-supplier=Element14; ComponentLink3Description: https://datasheet.ciiva.com/1458/1679506-1458124.pdf?src-supplier=Element14; ComponentLink4URL: https://datasheet.ciiva.com/15165/getdatasheetpartid-66196-15165420.pdf?src-supplier=Verical; ComponentLink4Description: https://datasheet.ciiva.com/15165/getdatasheetpartid-66196-15165420.pdf?src-supplier=Verical; ComponentLink5URL: https://datasheet.ciiva.com/151/cx7r-151284.pdf?src-supplier=Digi-Key; ComponentLink5Description: https://datasheet.ciiva.com/151/cx7r-151284.pdf?src-supplier=Digi-Key; ComponentLink6URL: https://datasheet.ciiva.com/2987/cx7r-2987876.pdf?src-supplier=Avnet; ComponentLink6Description: https://datasheet.ciiva.com/2987/cx7r-2987876.pdf?src-supplier=Avnet; ComponentLink7URL: https://datasheet.ciiva.com/151/cx7r-151285.pdf?src-supplier=Digi-Key; ComponentLink7Description: https://datasheet.ciiva.com/151/cx7r-151285.pdf?src-supplier=Digi-Key; ComponentLink8URL: https://datasheet.ciiva.com/28683/cx7r-28683525.pdf?src-supplier=Element14; ComponentLink8Description: https://datasheet.ciiva.com/28683/cx7r-28683525.pdf?src-supplier=Element14; ComponentLink9URL: https://datasheet.ciiva.com/151/cx7r-151286.pdf?src-supplier=Digi-Key; ComponentLink9Description: https://datasheet.ciiva.com/151/cx7r-151286.pdf?src-supplier=Digi-Key; ComponentLink10URL: https://datasheet.ciiva.com/1458/1679506-1458123.pdf?src-supplier=Element14; ComponentLink10Description: https://datasheet.ciiva.com/1458/1679506-1458123.pdf?src-supplier=Element14; ComponentLink11URL: https://datasheet.ciiva.com/5418/cx7r-218113-5418283.pdf?src-supplier=Mouser; ComponentLink11Description: https://datasheet.ciiva.com/5418/cx7r-218113-5418283.pdf?src-supplier=Mouser; ComponentLink12URL: https://datasheet.ciiva.com/16199/cx7r-16199117.pdf?src-supplier=Future+Electronics; ComponentLink12Description: https://datasheet.ciiva.com/16199/cx7r-16199117.pdf?src-supplier=Future+Electronics; ComponentLink13URL: https://datasheet.ciiva.com/14605/70001075-14605045.pdf?src-supplier=Allied+Electronics; ComponentLink13Description: https://datasheet.ciiva.com/14605/70001075-14605045.pdf?src-supplier=Allied+Electronics
simulation model CAP (Capacitor)
footprint 0603R(1608)
pins: 1, 2

## CAP 0.1uF 0201
designator C?, comment Capacitance: 100nF  (hidden comment: ?)
Cap Ceramic 0.1uF 50V X7R 10% SMD 2.0 x 1.2 mm 125 C Paper T/R; Manufacturer: KEMET; Manufacturer Part Number: C0805C104K5RACTU; _Verified Footprint: .mfr-pn? footprint?; _Verified BOM: .mfr-pn?; Voltage: 500V; _Verified Symbol: .mfr-pn?; Supplier 1: Digi-Key; Supplier Part Number 1: 399-1170-1-ND; RoHS: Yes; Category: Ceramic Capacitors; Stock 1: 2600723; Pricing 1: 1=0.16000, 10=0.11500, 50=0.06540, 100=0.05420, 500=0.03802, 1000=0.03147 (USD); Mount: Surface Mount,PCB; Case/Package: 0805; Number of Pins: 2; Case Code (Imperial): 0805; Case Code (Metric): 2012; Dielectric Material: Ceramic; Contact Plating: Tin,Matte; Min Operating Temperature: -55°C; Max Operating Temperature: 125°C; Voltage Rating: 50V; Tolerance: 10%; Packaging: Tape and Reel; Dielectric: X7R; Package Quantity: 4000; Voltage Rating (DC): 50V; Termination: SMD/SMT; Length: 2mm; Height: 0.9mm; Width: 1.2mm; Depth: 1.25mm; Thickness: 0.035inch; Lead Pitch: 0.75mm; Radiation Hardening: No; REACH SVHC: No SVHC; ComponentLink1URL: https://datasheet.ciiva.com/14589/70095383-14589048.pdf?src-supplier=Allied+Electronics; ComponentLink1Description: https://datasheet.ciiva.com/14589/70095383-14589048.pdf?src-supplier=Allied+Electronics; ComponentLink2URL: https://datasheet.ciiva.com/32431/slceramic-chip-condensers-e-32431755.pdf?src-supplier=Distrelec; ComponentLink2Description: https://datasheet.ciiva.com/32431/slceramic-chip-condensers-e-32431755.pdf?src-supplier=Distrelec; ComponentLink3URL: https://datasheet.ciiva.com/28682/1851736-28682232.pdf?src-supplier=Element14; ComponentLink3Description: https://datasheet.ciiva.com/28682/1851736-28682232.pdf?src-supplier=Element14; ComponentLink4URL: https://datasheet.ciiva.com/18410/70095383-18410815.pdf?src-supplier=Allied+Electronics; ComponentLink4Description: https://datasheet.ciiva.com/18410/70095383-18410815.pdf?src-supplier=Allied+Electronics
simulation model CAP (Capacitor)
footprint CAPC0603X?N (Footprint not found)
footprint 0805
pins: 1, 2

## CAP 1uF
designator C?, comment 1uF
KEMET - C0805C105J4RACTU. - CERAMIC CAPACITOR, 1UF, 16V, X7R, 5%, 08; _Verified Footprint: .mfr-pn? footprint?; _Verified Symbol: .mfr-pn?; _Verified BOM: .mfr-pn?; Supplier 1: Digi-Key; Supplier Part Number 1: 399-8001-1-ND; Manufacturer: KEMET; Manufacturer Part Number: C0805C105J4RACTU; RoHS: Yes; Category: Ceramic Capacitors; Stock 1: 70365; Pricing 1: 1=0.35000, 10=0.24000, 50=0.16780, 100=0.14370, 500=0.10782, 1000=0.09104 (USD); Mount: Surface Mount; Case/Package: 0805; Number of Pins: 2; Case Code (Imperial): 0805; Case Code (Metric): 2012; Dielectric Material: Ceramic; Min Operating Temperature: -55°C; Max Operating Temperature: 125°C; Capacitance: 1uF; Tolerance: 5%; Packaging: Tape and Reel; Package Quantity: 1; Voltage Rating: 16V; Voltage Rating (DC): 16V; Dielectric: X7R; Termination: SMD/SMT; Length: 2mm; Height: 0.9mm; Width: 0.049inch; Thickness: 0.039inch; Depth: 1.25mm; Lead Pitch: 0.75mm; REACH SVHC: No SVHC; ComponentLink1URL: http://www.farnell.com/datasheets/2746093.pdf?src-supplier=Farnell; ComponentLink1Description: http://www.farnell.com/datasheets/2746093.pdf?src-supplier=Farnell; ComponentLink2URL: http://components.arrow.com/part/dataview/0323_00070888?src-supplier=Arrow+Europe; ComponentLink2Description: http://components.arrow.com/part/dataview/0323_00070888?src-supplier=Arrow+Europe; ComponentLink3URL: http://www.farnell.com/datasheets/2315440.pdf?src-supplier=Farnell; ComponentLink3Description: http://www.farnell.com/datasheets/2315440.pdf?src-supplier=Farnell; ComponentLink4URL: http://components.arrow.com/part/dataview/30748390S8976888N7429?src-supplier=Arrow+Electronics; ComponentLink4Description: http://components.arrow.com/part/dataview/30748390S8976888N7429?src-supplier=Arrow+Electronics; ComponentLink5URL: http://www.mouser.com/ds/2/212/KEM_C1002_X7R_SMD-1102033.pdf?src-supplier=Mouser; ComponentLink5Description: http://www.mouser.com/ds/2/212/KEM_C1002_X7R_SMD-1102033.pdf?src-supplier=Mouser; ComponentLink6URL: http://capacitoredge.kemet.com/capedge2/DataSheet?pn=C0805C105J4RACTU&src-supplier=Avnet; ComponentLink6Description: http://capacitoredge.kemet.com/capedge2/DataSheet?pn=C0805C105J4RACTU&src-supplier=Avnet; ComponentLink7URL: http://www.farnell.com/datasheets/1828800.pdf?src-supplier=Element14; ComponentLink7Description: http://www.farnell.com/datasheets/1828800.pdf?src-supplier=Element14; ComponentLink8URL: https://api.kemet.com/component-edge/download/datasheet/C0805C105J4RACTU.pdf?src-supplier=Digi-Key; ComponentLink8Description: https://api.kemet.com/component-edge/download/datasheet/C0805C105J4RACTU.pdf?src-supplier=Digi-Key; ComponentLink9URL: http://www.farnell.com/datasheets/2746093.pdf?src-supplier=Newark; ComponentLink9Description: http://www.farnell.com/datasheets/2746093.pdf?src-supplier=Newark; ComponentLink10URL: http://www.farnell.com/datasheets/2746093.pdf?src-supplier=Element14; ComponentLink10Description: http://www.farnell.com/datasheets/2746093.pdf?src-supplier=Element14; ComponentLink11URL: http://www.farnell.com/datasheets/1828800.pdf?src-supplier=Newark; ComponentLink11Description: http://www.farnell.com/datasheets/1828800.pdf?src-supplier=Newark; ComponentLink12URL: http://capacitoredge.kemet.com/capedge2/DataSheet?pn=C0805C105J4RACTU&src-supplier=Avnet+Europe; ComponentLink12Description: http://capacitoredge.kemet.com/capedge2/DataSheet?pn=C0805C105J4RACTU&src-supplier=Avnet+Europe
simulation model CAP (Capacitor)
footprint 0805
pins: 1, 2

## CAP 10uF
designator C?, comment 10uF
AVX - 1206YC106KAT2A - SMD Multilayer Ceramic Capacitor, 10 µF, 16 V, 1206 [3216 Metric], ± 10%, X7R, AVX 1206 MLCC; Manufacturer: Kyocera AVX; _Verified Footprint: .mfr-pn? footprint?; _Verified Symbol: .mfr-pn?; Voltage Rating: 16V; Dissipation Factor: 3.5%; _Verified BOM: .mfr-pn?; Supplier 1: Digi-Key; Supplier Part Number 1: 478-5725-1-ND; Manufacturer Part Number: 1206YC106KAT2A; RoHS: Yes; Category: Ceramic Capacitors; Stock 1: 77112; Pricing 1: 1=0.86000, 10=0.63100, 50=0.50480, 100=0.43270, 500=0.34256, 1000=0.28846 (USD); Mount: Surface Mount,PCB; Case/Package: 1206; Number of Pins: 2; Case Code (Metric): 3216; Case Code (Imperial): 1206; Min Operating Temperature: -55°C; Max Operating Temperature: 125°C; Capacitance: 10uF; Tolerance: 10%; Packaging: Tape and Reel; Package Quantity: 2500; Voltage Rating (DC): 16V; Dielectric: X7R; Termination: SMD/SMT; Voltage: 16V; Length: 3.2mm; Height: 1.78mm; Width: 0.063inch; Depth: 1.6mm; Thickness: 0.07inch; Radiation Hardening: No; REACH SVHC: No SVHC; Lead Free: Lead Free; ComponentLink1URL: https://datasheet.ciiva.com/11786/0900766b80dc2409-11786275.pdf?src-supplier=RSComponents; ComponentLink1Description: https://datasheet.ciiva.com/11786/0900766b80dc2409-11786275.pdf?src-supplier=RSComponents; ComponentLink2URL: https://datasheet.ciiva.com/154/cx7r-154082.pdf?src-supplier=Digi-Key; ComponentLink2Description: https://datasheet.ciiva.com/154/cx7r-154082.pdf?src-supplier=Digi-Key; ComponentLink3URL: https://datasheet.ciiva.com/2988/cx7r-2988162.pdf?src-supplier=Avnet; ComponentLink3Description: https://datasheet.ciiva.com/2988/cx7r-2988162.pdf?src-supplier=Avnet; ComponentLink4URL: https://datasheet.ciiva.com/154/cx7r-154083.pdf?src-supplier=Digi-Key; ComponentLink4Description: https://datasheet.ciiva.com/154/cx7r-154083.pdf?src-supplier=Digi-Key; ComponentLink5URL: https://datasheet.ciiva.com/154/cx7r-154084.pdf?src-supplier=Digi-Key; ComponentLink5Description: https://datasheet.ciiva.com/154/cx7r-154084.pdf?src-supplier=Digi-Key; ComponentLink6URL: https://datasheet.ciiva.com/7833/cx7r-7833573.pdf?src-supplier=Element14; ComponentLink6Description: https://datasheet.ciiva.com/7833/cx7r-7833573.pdf?src-supplier=Element14; ComponentLink7URL: https://datasheet.ciiva.com/7833/cx7r-7833574.pdf?src-supplier=Element14; ComponentLink7Description: https://datasheet.ciiva.com/7833/cx7r-7833574.pdf?src-supplier=Element14; ComponentLink8URL: https://datasheet.ciiva.com/7833/cx7r-7833575.pdf?src-supplier=Element14; ComponentLink8Description: https://datasheet.ciiva.com/7833/cx7r-7833575.pdf?src-supplier=Element14; ComponentLink9URL: https://datasheet.ciiva.com/14592/70001075-14592536.pdf?src-supplier=Allied+Electronics; ComponentLink9Description: https://datasheet.ciiva.com/14592/70001075-14592536.pdf?src-supplier=Allied+Electronics; ComponentLink10URL: https://datasheet.ciiva.com/16537/cx7r-16537144.pdf?src-supplier=Avnet+Asia; ComponentLink10Description: https://datasheet.ciiva.com/16537/cx7r-16537144.pdf?src-supplier=Avnet+Asia; ComponentLink11URL: https://datasheet.ciiva.com/11463/cx7r-11463262.pdf?src-supplier=Avnet; ComponentLink11Description: https://datasheet.ciiva.com/11463/cx7r-11463262.pdf?src-supplier=Avnet
simulation model CAP (Capacitor)
footprint 1206
pins: 1, 2

## CAP POLAR 2.7uF
designator C?, comment ?  (value not drawn)
CAP ALUM 2.7UF 20% 400V RADIAL; Manufacturer: Rubycon; Manufacturer Part Number: 400LLE2.7MEFC8X11R5; _Verified Footprint: .mfr-pn? footprint?; _Verified Symbol: .mfr-pn?; Ripple Current: 43mA; Life (Hours): 15000Hour; _Verified BOM: .mfr-pn?; Supplier 1: Digi-Key; Supplier Part Number 1: 1189-1328-ND; RoHS: Yes; Category: Aluminum Electrolytic Capacitors; Stock 1: 1368; Pricing 1: 1=0.46000, 10=0.32700, 50=0.24740, 100=0.21550, 500=0.15960, 1000=0.13566, 2500=0.12768, 5000=0.11970 (USD); Mount: Through Hole; Case/Package: Radial; Min Operating Temperature: -40°C; Max Operating Temperature: 105°C; Package Quantity: 2000; Capacitance: 2.7uF; Voltage Rating: 400V; Tolerance: 20%; Packaging: Bulk; Lead Pitch: 0.138inch; Height - Seated (Max): 0.512inch; ComponentLink1URL: http://www.rubycon.co.jp/en/catalog/e_pdfs/aluminum/e_lle.pdf?src-supplier=Digi-Key; ComponentLink1Description: http://www.rubycon.co.jp/en/catalog/e_pdfs/aluminum/e_lle.pdf?src-supplier=Digi-Key
simulation model CAP (Capacitor)
footprint CAP_8X11.5_Radial
pins: 1, 2

## CAP POLAR 22uF 1206
designator C?, comment Capacitance: 22uF  (hidden comment: ?)
Cap Aluminum Lytic 22uF 35V 20% (5 X 5.8mm) SMD 160mA 2000h 105C Automotive T/R; Manufacturer: Nichicon; Manufacturer Part Number: UUD1V220MCL1GS; _Verified Footprint: .mfr-pn? footprint?; _Verified BOM: .mfr-pn?; Dielectric Material: Aluminium; Leakage Current: 3uA; Ripple Current: 150mA; Dissipation Factor: 0.12%; Life (Hours): 2000Hour; Polarity: Polar; Impedance: 760mR; Lead Diameter: 0.8mm; _Verified Symbol: .mfr-pn?; Supplier 1: Digi-Key; Supplier Part Number 1: 493-2284-1-ND; RoHS: Yes; Category: Aluminum Electrolytic Capacitors; Stock 1: 684; Pricing 1: 1=0.47000, 10=0.32800, 50=0.22940, 100=0.19660, 500=0.14746 (USD); Case/Package: Radial; Number of Pins: 2; Min Operating Temperature: -55°C; Max Operating Temperature: 105°C; Packaging: Tape and Reel; Tolerance: 20%; Voltage Rating: 35V; Package Quantity: 1; Voltage Rating (DC): 35V; Termination: SMD/SMT; Voltage: 35V; Features: General Purpose; Ripple Current (AC): 150mA; Diameter: 5mm; Length: 5.8mm; Height: 5.8mm; Height - Seated (Max): 0.228inch; Lead Pitch: 1.3mm; Radiation Hardening: No; Lead Free: Lead Free; REACH SVHC: No SVHC; ComponentLink1URL: https://datasheet.ciiva.com/96/e-ch-ref-96800.pdf?src-supplier=Digi-Key; ComponentLink1Description: https://datasheet.ciiva.com/96/e-ch-ref-96800.pdf?src-supplier=Digi-Key; ComponentLink2URL: https://datasheet.ciiva.com/96/e-ch-ta-96798.pdf?src-supplier=Digi-Key; ComponentLink2Description: https://datasheet.ciiva.com/96/e-ch-ta-96798.pdf?src-supplier=Digi-Key; ComponentLink3URL: https://datasheet.ciiva.com/96/e-uud-96799.pdf?src-supplier=Digi-Key; ComponentLink3Description: https://datasheet.ciiva.com/96/e-uud-96799.pdf?src-supplier=Digi-Key
simulation model CAP (Capacitor)
footprint CAPC3216X190N
footprint CAP_6.3X5.8
pins: 1, 2